# Altium footprint library RBQ10RSM10BTL1.PcbLib: 1 footprints
Each footprint in its own frame and in the unit in brackets; x right, y up, seen from the top. Pads: shape width x height; smd on the part's side, far side on the other; paste and mask are expansions set on the pad; w line width, h text height; cw(c..) or ccw(c..) is an arc to the next point about the centre after c.
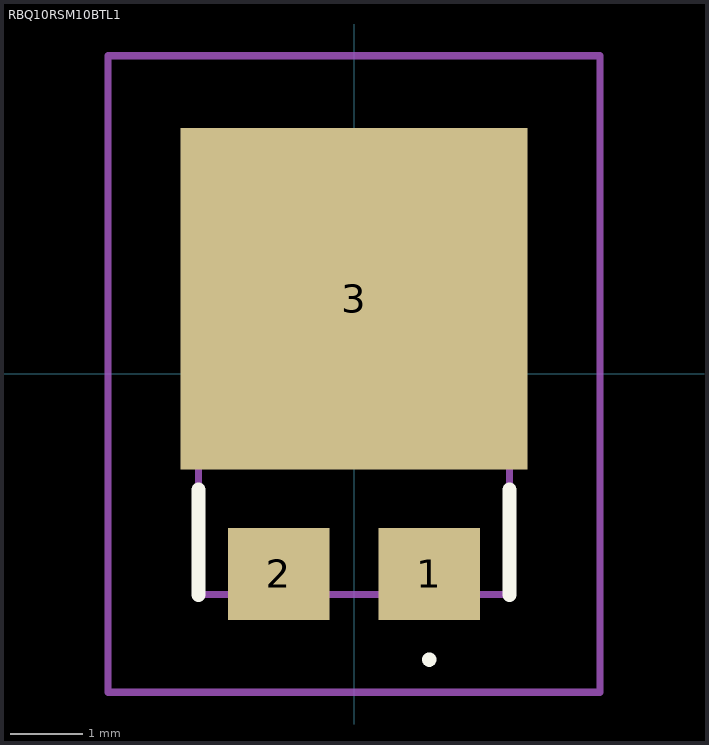
[diagram p0: the footprint, top view; thin cyan lines are the x and y axes]

## RBQ10RSM10BTL1 [mm]
pads (3):
  rect 1.4x1.27 smd: 1(1.04,-2.765) 2(-1.04,-2.765)
  rect 4.8x4.72 smd: 3(0,1.04)
Top Overlay:
  lines w0.1: 1.04,-4 1.04,-4 ; 1.04,-4 ccw(c1.04,-3.95) 1.04,-3.9 ; 1.04,-4 cw(c1.04,-3.95) 1.04,-3.9 ; 1.04,-3.9 1.04,-3.9
  lines w0.2: -2.15,-3.05 -2.15,-1.6 ; 2.15,-3.05 2.15,-1.6
Mechanical 15:
  lines w0.1: -2.15,-3.05 -2.15,3.05 2.15,3.05 2.15,-3.05 -2.15,-3.05
Mechanical 20:
  lines w0.1: -3.4,-4.4 -3.4,4.399 3.4,4.399 3.4,-4.4 -3.4,-4.4
3D body "RBQ10RSM10BTL1.stp": height 5.8, standoff -4.65, extent -10,-3.376 10,3.376